# Altium schematic symbol library passive_thd.SchLib: 24 symbols
Pins are listed as number, name and electrical type; pins without a type are passive.

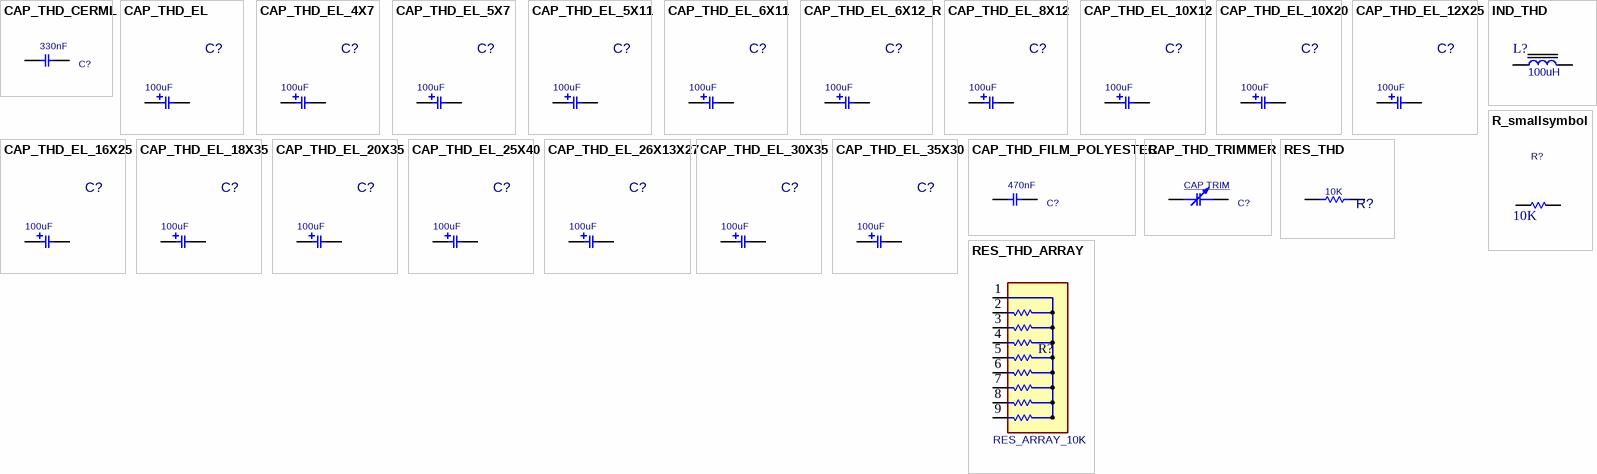
[diagram p0: symbols CAP_THD_CERML to RES_THD_ARRAY]

## CAP_THD_CERML
designator C?, comment 330nF
CAP, THD, CER MULTI LAYER,; DESC: CAP, CER MULTI LAYER,; MANF_P#: MANF_PART#; PARAM2: 50V; PRICE: 100= 1$; MANF: MANF; ASSEMBLY: ASSEMBLY; VALUE: 330nF
footprint C_CER_D3 (CAP, CER MULTILAYER, D:3.5mm, pitch: 2.54mm)
footprint C_CER_D5 (CAP, CER, D:5mm, pitch: 2.5mm)
footprint C_CER_D6A (CAP, CER MULTILAYER, 5.8X1.7mm, pitch: 2.5mm)
footprint C_CER_D6B (CAP, CER MULTILAYER, 6X2mm, pitch: 5mm)
footprint C_CER_D7A (CAP, CER MULTILAYER, 7.0X1.7mm, pitch: 5.0mm)
footprint C_CER_D7B (CAP, CER MULTILAYER, 7.0X2.6mm, pitch: 5.0mm)
footprint C_CER_D10 (CAP, CER MULTILAYER, 12X4mm, pitch: 7.5mm)
footprint C_CER_D12 (CAP, CER MULTILAYER, 12X4mm, pitch: 7.5mm)
footprint C_CER_M4 (CAP, CER MULTILAYER, 4.2X2.0mm, pitch: 5.0mm, TDK FK24)
footprint C_CER_M5 (CAP, CER MULTILAYER, 5.0X2.5mm, pitch: 2.5mm, RAD0.1)
pins: 1, 2

## CAP_THD_EL
designator C?, comment 100uF
CAP, THD, ELEC,; MANF_P#: MANF_PART#; PARAM2: 25V; DESC: DESCRIPTION; DIST#: MOUSER; PARAM: 20%; PRICE: 10= 5$; MANF: MANF; ASSEMBLY: ASSEMBLY; VALUE: 100uF
footprint C_EL_8X12 (Cap Elec, D8.0X12.0H pitch: 3.5mm, RB.14/.26, RB.15/.32)
footprint C_EL_4X7 (Cap Elec, D4.0X7.0H pitch: 1.5mm)
footprint C_EL_5X7 (Cap Elec, D5.0X7.0H pitch: 2mm)
footprint C_EL_5X11 (Cap Elec, D5.0X11.0H pitch: 2mm)
footprint C_EL_6X11 (Cap Elec, D6.3X11.0H pitch: 2.5mm)
footprint C_EL_8X12 (Cap Elec, D8.0X12.0H pitch: 3.5mm, RB.14/.26, RB.15/.32)
footprint C_EL_8X12R (Cap Elec, D8.0X12.0H pitch: 3.5mm, RIGHT ANGLE)
footprint C_EL_10X20 (Cap Elec, D10.0X20.0H pitch: 5.0mm, RB.2/.4)
footprint C_EL_12X25 (Cap Elec, D12.0X25.0H pitch: 5.0mm, RB.2/.5)
footprint C_EL_16X25 (Cap Elec, D16.0X25.0H pitch: 7.6mm, RB.3/.6)
footprint C_EL_18X35 (Cap Elec, D18.0X35.0H pitch: 7.6mm, RB.3/.7)
footprint C_EL_20X35 (Cap Elec, D20.0X35.0H pitch: 10.0mm, RB.4/.8)
footprint C_EL_25X40 (Cap Elec, D25.0X40.0H pitch: 12.8mm, RB.5/1)
footprint C_EL_30X50 (Cap Elec, D30.0X50.0H pitch: 10.0mm)
footprint C_EL_35X30 (Cap Elec, D35.0X30.0H pitch: 10.0mm, 470uF/400V, RB.44/1.3)
footprint C_EL_10X12 (Footprint not found)
footprint C_EL_6X12_R (Footprint not found)
pins: 1, 2

## CAP_THD_EL_4X7
designator C?, comment 100uF
CAP, THD, ELEC,; MANF_P#: MANF_PART#; PARAM2: 25V; DESC: DESCRIPTION; DIST#: MOUSER; PARAM: 20%; PRICE: 10= 5$; MANF: MANF; ASSEMBLY: ASSEMBLY; VALUE: 100uF
footprint C_EL_4X7 (Cap Elec, D4.0X7.0H pitch: 1.5mm)
pins: 1, 2

## CAP_THD_EL_5X7
designator C?, comment 100uF
CAP, THD, ELEC,; MANF_P#: MANF_PART#; PARAM2: 25V; DESC: DESCRIPTION; DIST#: MOUSER; PARAM: 20%; PRICE: 10= 5$; MANF: MANF; ASSEMBLY: ASSEMBLY; VALUE: 100uF
footprint C_EL_5X7 (Cap Elec, D5.0X7.0H pitch: 2mm)
pins: 1, 2

## CAP_THD_EL_5X11
designator C?, comment 100uF
CAP, THD, ELEC,; MANF_P#: MANF_PART#; PARAM2: 25V; DESC: DESCRIPTION; DIST#: MOUSER; PARAM: 20%; PRICE: 10= 5$; MANF: MANF; ASSEMBLY: ASSEMBLY; VALUE: 100uF
footprint C_EL_5X11 (Cap Elec, D5.0X11.0H pitch: 2mm)
pins: 1, 2

## CAP_THD_EL_6X11
designator C?, comment 100uF
CAP, THD, ELEC,; MANF_P#: MANF_PART#; PARAM2: 25V; DESC: DESCRIPTION; DIST#: MOUSER; PARAM: 20%; PRICE: 10= 5$; MANF: MANF; ASSEMBLY: ASSEMBLY; VALUE: 100uF
footprint C_EL_6X11 (Cap Elec, D6.3X11.0H pitch: 2.5mm)
pins: 1, 2

## CAP_THD_EL_6X12_R
designator C?, comment 100uF
CAP, THD, ELEC,; MANF_P#: MANF_PART#; PARAM2: 25V; DESC: DESCRIPTION; DIST#: MOUSER; PARAM: 20%; PRICE: 10= 5$; MANF: MANF; ASSEMBLY: ASSEMBLY; VALUE: 100uF
footprint C_EL_6X12_R (Cap Elec, D6.3X12.0H pitch: 2.5mm)
pins: 1, 2

## CAP_THD_EL_8X12
designator C?, comment 100uF
CAP, THD, ELEC,; MANF_P#: MANF_PART#; PARAM2: 25V; DESC: DESCRIPTION; DIST#: MOUSER; PARAM: 20%; PRICE: 10= 5$; MANF: MANF; ASSEMBLY: ASSEMBLY; VALUE: 100uF
footprint C_EL_8X12 (Cap Elec, D8.0X12.0H pitch: 3.5mm, RB.14/.26, RB.15/.32)
footprint C_EL_8X12R (Cap Elec, D8.0X12.0H pitch: 3.5mm, RIGHT ANGLE)
pins: 1, 2

## CAP_THD_EL_10X12
designator C?, comment 100uF
CAP, THD, ELEC,; MANF_P#: MANF_PART#; PARAM2: 25V; DESC: DESCRIPTION; DIST#: MOUSER; PARAM: 20%; PRICE: 10= 5$; MANF: MANF; ASSEMBLY: ASSEMBLY; VALUE: 100uF
footprint C_EL_10X12 (Cap Elec, D10.0X12.0H pitch: 5.0mm)
pins: 1, 2

## CAP_THD_EL_10X20
designator C?, comment 100uF
CAP, THD, ELEC,; MANF_P#: MANF_PART#; PARAM2: 25V; DESC: DESCRIPTION; DIST#: MOUSER; PARAM: 20%; PRICE: 10= 5$; MANF: MANF; ASSEMBLY: ASSEMBLY; VALUE: 100uF
footprint C_EL_10X20 (Cap Elec, D10.0X20.0H pitch: 5.0mm, RB.2/.4)
pins: 1, 2

## CAP_THD_EL_12X25
designator C?, comment 100uF
CAP, THD, ELEC,; MANF_P#: MANF_PART#; PARAM2: 25V; DESC: DESCRIPTION; DIST#: MOUSER; PARAM: 20%; PRICE: 10= 5$; MANF: MANF; ASSEMBLY: ASSEMBLY; VALUE: 100uF
footprint C_EL_12X25 (Cap Elec, D12.0X25.0H pitch: 5.0mm, RB.2/.5)
pins: 1, 2

## CAP_THD_EL_16X25
designator C?, comment 100uF
CAP, THD, ELEC,; MANF_P#: MANF_PART#; PARAM2: 25V; DESC: DESCRIPTION; DIST#: MOUSER; PARAM: 20%; PRICE: 10= 5$; MANF: MANF; ASSEMBLY: ASSEMBLY; VALUE: 100uF
footprint C_EL_16X25 (Cap Elec, D16.0X25.0H pitch: 7.6mm, RB.3/.6)
pins: 1, 2

## CAP_THD_EL_18X35
designator C?, comment 100uF
CAP, THD, ELEC,; MANF_P#: MANF_PART#; PARAM2: 25V; DESC: DESCRIPTION; DIST#: MOUSER; PARAM: 20%; PRICE: 10= 5$; MANF: MANF; ASSEMBLY: ASSEMBLY; VALUE: 100uF
footprint C_EL_18X35 (Cap Elec, D18.0X35.0H pitch: 7.6mm, RB.3/.7)
pins: 1, 2

## CAP_THD_EL_20X35
designator C?, comment 100uF
CAP, THD, ELEC,; MANF_P#: MANF_PART#; PARAM2: 25V; DESC: DESCRIPTION; DIST#: MOUSER; PARAM: 20%; PRICE: 10= 5$; MANF: MANF; ASSEMBLY: ASSEMBLY; VALUE: 100uF
footprint C_EL_20X35 (Cap Elec, D20.0X35.0H pitch: 10.0mm, RB.4/.8)
pins: 1, 2

## CAP_THD_EL_25X40
designator C?, comment 100uF
CAP, THD, ELEC,; MANF_P#: MANF_PART#; PARAM2: 25V; DESC: DESCRIPTION; DIST#: MOUSER; PARAM: 20%; PRICE: 10= 5$; MANF: MANF; ASSEMBLY: ASSEMBLY; VALUE: 100uF
footprint C_EL_25X40 (Cap Elec, D25.0X40.0H pitch: 12.8mm, RB.5/1)
pins: 1, 2

## CAP_THD_EL_26X13X27
designator C?, comment 100uF
CAP, THD, ELEC,; MANF_P#: MANF_PART#; PARAM2: 25V; DESC: DESCRIPTION; DIST#: MOUSER; PARAM: 20%; PRICE: 10= 5$; MANF: MANF; ASSEMBLY: ASSEMBLY; VALUE: 100uF
footprint C_EL_26X13X27 (Cap Elec, 26X13X27mm, 18mm pitch)
pins: 1, 2

## CAP_THD_EL_30X35
designator C?, comment 100uF
CAP, THD, ELEC,; MANF_P#: MANF_PART#; PARAM2: 25V; DESC: DESCRIPTION; DIST#: MOUSER; PARAM: 20%; PRICE: 10= 5$; MANF: MANF; ASSEMBLY: ASSEMBLY; VALUE: 100uF
footprint C_EL_30X50 (Cap Elec, D30.0X50.0H pitch: 10.0mm)
pins: 1, 2

## CAP_THD_EL_35X30
designator C?, comment 100uF
CAP, THD, ELEC,; MANF_P#: MANF_PART#; PARAM2: 25V; DESC: DESCRIPTION; DIST#: MOUSER; PARAM: 20%; PRICE: 10= 5$; MANF: MANF; ASSEMBLY: ASSEMBLY; VALUE: 100uF
footprint C_EL_35X30 (Cap Elec, D35.0X30.0H pitch: 10.0mm, 470uF/400V, RB.44/1.3)
pins: 1, 2

## CAP_THD_FILM_POLYESTER
designator C?, comment 470nF
CAP, FILM,; MANF_P#: MANF_PART#; PARAM2: 400V; PRICE: 100= 1$; DESC: CAP, FILM,; MANF: MANF; ASSEMBLY: ASSEMBLY; VALUE: 470nF
footprint C_PLY_7X2 (CAP, POLYESTER, 7.5X2.5mm pitch: 5.0mm)
footprint C_PLY_19X8 (CAP, POLYESTER, 19.0X8.0mm pitch: 15.0mm, 0.22uF 400V)
footprint C_PLY_22X7 (CAP, POLYESTER, 33.0X7.0mm pitch: 20.0mm, 0.68uF 400V)
footprint C_PLY_6X3 (Footprint not found)
footprint C_PLY_26X9 (Footprint not found)
footprint C_PLY_26X8 (Footprint not found)
footprint C_PLY_10X6X9 (Footprint not found)
footprint C_PLY_10X6X12 (Footprint not found)
footprint C_PLY_7X5 (Capacitor, THT, Metallized Polyester Film)
footprint C_PLY_7X6 (Capacitor, THT, Metallized Polyester Film)
footprint C_PLY_7X6_5 (Capacitor, THT, Metallized Polyester Film)
footprint C_PLY_10X5 (Capacitor, THT, Metallized Polyester Film)
footprint C_PLY_10X8 (Capacitor, THT, Metallized Polyester Film, 5 & 7.5mm pitch hybrid)
footprint C_PLY_12X4 (Capacitor, MF, Thru-Hole, Dipped Radial; Body 12.5 x 4.5 x 9.0 mm (WxTxH) Pin Spacing 10.0 mm (typ))
pins: 1, 2

## CAP_THD_TRIMMER
designator C?, comment CAP TRIM
CAP, THD, TRIMMER; DESC: CAP, SMD, TRIMMER; MANF_P#: MANF_PART#; PARAM: PARAM; PRICE: 100= 1$; MANF: MANF; PARAM2: PARAM2; ASSEMBLY: ASSEMBLY; VALUE: CAP TRIM
footprint CTRM_6X6
footprint CTRM_10X10 (Trimmer Capacitor 10X10mm 3P)
pins: 1, 2

## IND_THD
designator L?, comment 100uH
INDUCTOR, THD; VALUE: 100uH
footprint LTOR_15X6 (INDUCTOR, TORIOD, 15.0X6.0mm)
footprint LTOR_25X10 (INDUCTOR, TORIOD, 25.0X10.0mm)
pins: 1, 2

## R_smallsymbol
designator R?, comment 10K
VALUE: 10K
pins: 1, 2

## RES_THD
designator R?, comment 10K
RESISTOR, THD; MANF_P#: RK73H1ETTP4701F; MANF: KOA SPEER; PARAM: 0.063W; DESC: DESCRIPTION; DIST#: MOUSER; PARAM2: 1%; ASSEMBLY: ASSEMBLY; PRICE: 100= 0.5$; VALUE: 10K
footprint R0125W_AX025 (RESISTOR 1/8 WATT, AXIAL0.25)
footprint R1W_AX06 (RESISTOR 1 WATT, AXIAL0.6)
footprint R2W_AX08 (RESISTOR 2 WATT, AXIAL0.8)
footprint R2W_AX_VER (RESISTOR 2 WATT, AXIAL0.8)
footprint R3W_AX09 (RESISTOR 3 WATT, AXIAL0.9)
footprint R4W_AX10 (RESISTOR 4 WATT, AXIAL1.0)
footprint R05W_AX05 (RESISTOR 0.5 WATT, AXIAL0.5)
footprint R5W_AX11 (RESISTOR 5 WATT, AXIAL1.1)
footprint R5W_VER (RESISTOR 5 WATT, AXIAL1.1)
footprint R025W_AX04 (RESISTOR 1/4 WATT, AXIAL0.4)
footprint R025W_AX_VER (RESISTOR 1/4 WATT, AXIAL0.4)
footprint R0125W_AX03 (RESISTOR 1/8 WATT, AXIAL0.3 INCH SPACING)
footprint R0125W_AX_VER (RESISTOR 1/8 WATT, AXIAL0.25)
footprint RWW2W_VER (RESISTOR 2 WATT, Wirewound)
footprint RWW10W_VER (RESISTOR 10 WATT, Wirewound)
footprint R10W_AX11 (RESISTOR 10 WATT, AXIAL1.1)
footprint R10W_AX14 (RESISTOR 10 WATT, AXIAL1.4)
footprint R10W_AX20 (RESISTOR 10 WATT, AXIAL2.0)
footprint RWW5W (Footprint not found)
footprint RWW5W_VER (Footprint not found)
pins: 1, 2

## RES_THD_ARRAY
designator R?, comment RES_ARRAY_10K
RESISTOR, THD, Array, 8RES; VALUE: RES_ARRAY_10K
footprint RES_ARRAYX8
pins: 1, 2, 3, 4, 5, 6, 7, 8, 9